# EAGLE library part DG202B (library 0_skookumsynth_ic)
QUAD CMOS ANAALOG SWITCH, NO
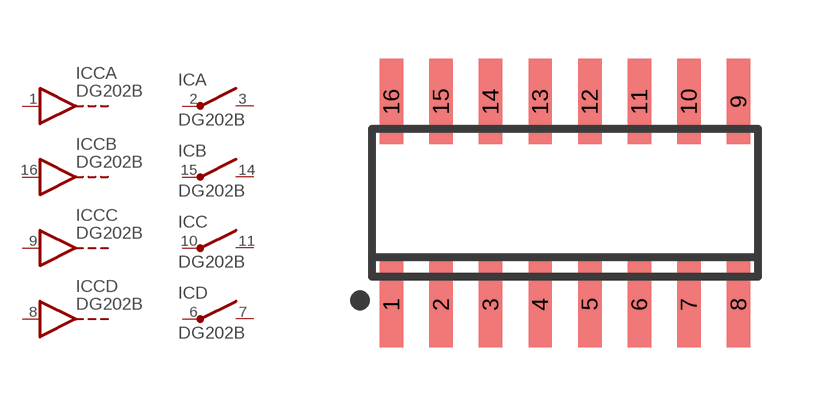
[diagram p0: symbol with the pads of SO16; footprint SO16]

Designator prefix IC; gates A=SPST B=SPST C=SPST D=SPST CA=CTRL CB=CTRL CC=CTRL CD=CTRL

## DG202BDY-T1-E3 (DIGIKEY_PART_NO: DG202BDY-T1-E3CT-ND; MFG: Vishay Siliconix; MFG_PART_NO: DG202BDY-T1-E3; MOUSER_PART_NO: 781-DG202BDY-E3)  [SO16]
1  CA:CTRL
2  A:1  pas
3  A:2  pas
6  D:1  pas
7  D:2  pas
8  CD:CTRL
9  CC:CTRL
10  C:1  pas
11  C:2  pas
14  B:2  pas
15  B:1  pas
16  CB:CTRL

## Footprint SO16 (pad centres in mm)
smd 0.6 x 2.2: 1 -4.445,-2.6; 2 -3.175,-2.6; 3 -1.905,-2.6; 4 -0.635,-2.6; 5 0.635,-2.6; 6 1.905,-2.6; 7 3.175,-2.6; 8 4.445,-2.6; 9 4.445,2.6; 10 3.175,2.6; 11 1.905,2.6; 12 0.635,2.6; 13 -0.635,2.6; 14 -1.905,2.6; 15 -3.175,2.6; 16 -4.445,2.6